# Altium schematic symbol library Transistors.SchLib: 15 symbols
Pins are listed as number, name and electrical type; pins without a type are passive.

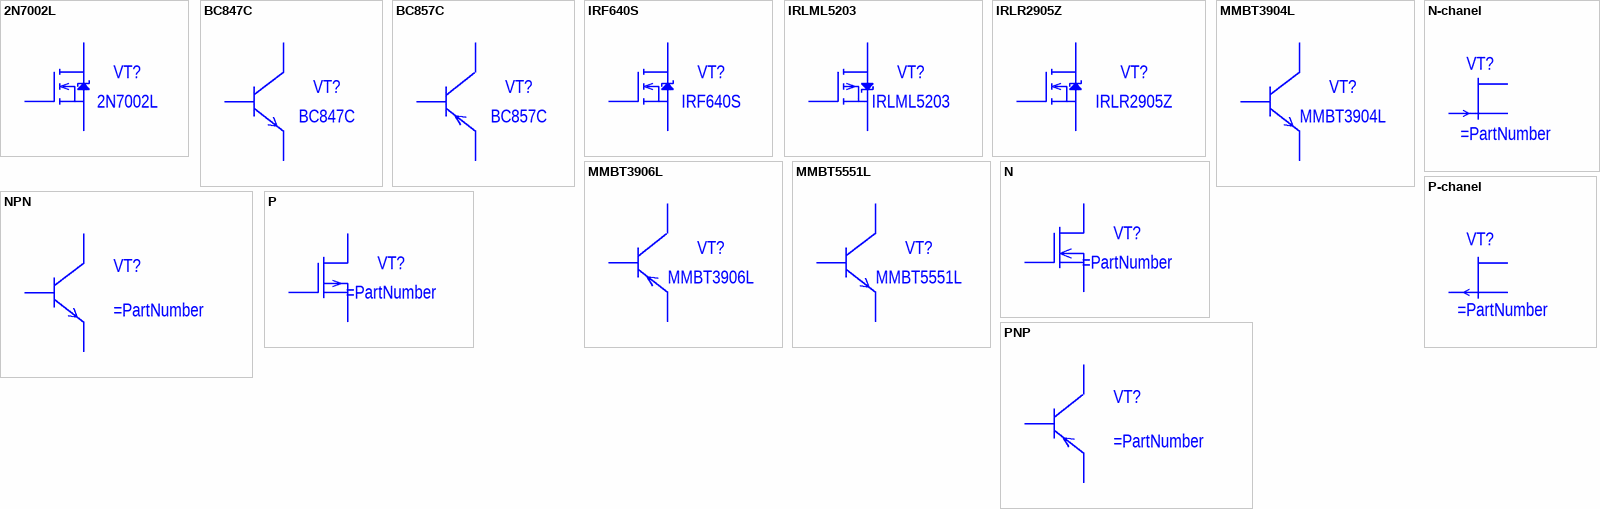
[diagram p0: symbols 2N7002L to PNP]

## 2N7002L
designator VT?
MOSFET N-CH 60V 0.115A SOT-23; Part Number: 2N7002LT1G; Manufacturer: ON Semiconductor; Note: SOT-23
footprint SOT23_123
pins: 1 G, 2 D, 3 S

## BC847C
designator VT?
TRANS NPN 45V 0.1A SOT-23; Part Number: BC847CLT3G; Manufacturer: ON Semiconductor; Note: SOT-23
footprint SOT23_123
pins: 1, 2, 3

## BC857C
designator VT?
TRANS PNP 45V 0.1A SOT-23; Part Number: BC857CLT1G; Manufacturer: ON Semiconductor; Note: SOT-23
footprint SOT23_123
pins: 1, 2, 3

## IRF640S
designator VT?
MOSFET N-CH 200V 18A D2PAK; Part Number: IRF640SPBF; Manufacturer: Vishay Siliconix; Note: D2PAK
footprint D2PAK (D-PAK, 3-Pads, Body 6,2x6,7mm (max), IPC Medium Density)
pins: 1 G, 2 D, 3 S

## IRLML5203
designator VT?
MOSFET P-CH 30V 3A SOT-23; Part Number: IRLML5203TRPBF; Manufacturer: Infineon Technologies
footprint SOT23_123
pins: 1 G, 2 D, 3 S

## IRLR2905Z
designator VT?
MOSFET N-CH 55V 42A DPAK; Part Number: IRLR2905ZTRPBF; Manufacturer: Infineon Technologies; Note: DPAK
footprint DPAK
pins: 1 G, 2 D, 3 S

## MMBT3904L
designator VT?
TRANS NPN 40V 0.2A SOT23; Part Number: MMBT3904LT1G; Manufacturer: ON Semiconductor; Note: SOT-23
footprint SOT23_123
pins: 1, 2, 3

## MMBT3906L
designator VT?
TRANS PNP 40V 0.2A SOT23; Part Number: MMBT3906LT1G; Manufacturer: ON Semiconductor; Note: SOT-23
footprint SOT23_123
pins: 1, 2, 3

## MMBT5551L
designator VT?
TRANS NPN 160V 0.6A SOT23-3; Part Number: MMBT5551LT1G; Manufacturer: ON Semiconductor; Note: SOT-23
footprint SOT23_123
pins: 1, 2, 3

## N
designator VT?
Part Number: *
pins: 1 G, 2 S, 3 D

## N-chanel
designator VT?
Part Number: *
pins: 1, 2, 3

## NPN
designator VT?
Part Number: *
pins: 1, 2, 3

## P
designator VT?
Part Number: *
pins: 1 G, 2 S, 3 D

## P-chanel
designator VT?
Part Number: *
pins: 1, 2, 3

## PNP
designator VT?
Part Number: *
pins: 1, 2, 3